# EAGLE library part VICOR_MAXI (library Vicor)
VICOR MAXI
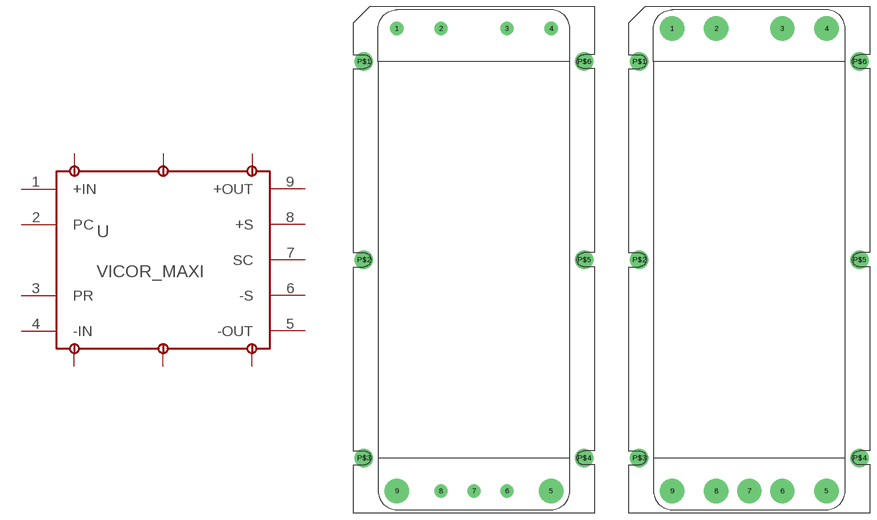
[diagram p0: symbol with the pads of VICOR_MAXI; footprints VICOR_MAXI, VICOR_MAXI_PCB]

Designator prefix -

## VICOR_MAXIA  [VICOR_MAXI]
1  +IN  in
2  PC
3  PR
4  -IN  in
5  -OUT  out
6  -S  out
7  SC
8  +S  out
9  +OUT  out
P$1  P1  pas
P$2  P2  pas
P$3  P3  pas
P$4  P4  pas
P$5  P5  pas
P$6  P6  pas

## VICOR_MAXIPCB  [VICOR_MAXI_PCB]
Pads as for VICOR_MAXI

## Footprint VICOR_MAXI (pad centres in mm)
VICOR MAXI
drill 2.032: 1 -17.78,53.34; 2 -7.62,53.34; 3 7.62,53.34; 4 17.78,53.34; 6 7.62,-53.34; 7 0,-53.34; 8 -7.62,-53.34
drill 4.572: 5 17.78,-53.34; 9 -17.78,-53.34
drill 3.277: P$1 -25.4,45.72; P$2 -25.4,0; P$3 -25.4,-45.72; P$4 25.4,-45.72; P$5 25.4,0; P$6 25.4,45.72

## Footprint VICOR_MAXI_PCB (pad centres in mm)
VICOR MAXI PARA PCB Tiene conectores que se adaptan al pcb
drill 4.6: 1 -16.51,58.42; 2 -6.35,58.42; 3 8.89,58.42; 4 19.05,58.42; 6 8.89,-48.26; 7 1.27,-48.26; 8 -6.35,-48.26
drill 4.572: 5 19.05,-48.26; 9 -16.51,-48.26
drill 3.277: P$1 -24.13,50.8; P$2 -24.13,5.08; P$3 -24.13,-40.64; P$4 26.67,-40.64; P$5 26.67,5.08; P$6 26.67,50.8